# Altium footprint library PcbLib1.PcbLib: 1 footprints
Each footprint in its own frame and in the unit in brackets; x right, y up, seen from the top. Pads: shape width x height; smd on the part's side, far side on the other; paste and mask are expansions set on the pad; w line width, h text height; cw(c..) or ccw(c..) is an arc to the next point about the centre after c.
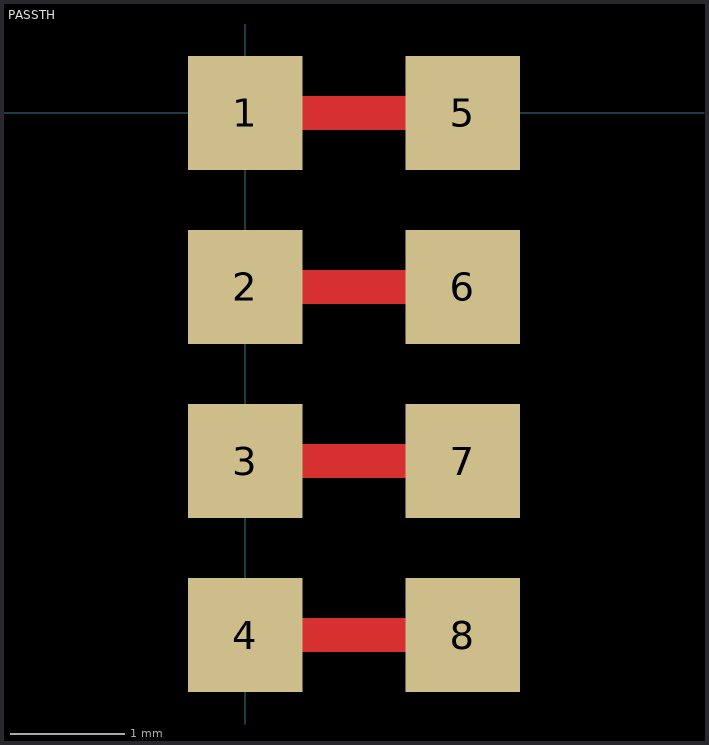
[diagram p0: the footprint, top view; thin cyan lines are the x and y axes]

## PASSTH [mm]
pads (8):
  rect 1x1 smd: 1(0,0) 2(0,-1.524) 3(0,-3.048) 4(0,-4.572) 5(1.905,0) 6(1.905,-1.524) 7(1.905,-3.048) 8(1.905,-4.572)
Top Layer:
  lines w0.3: 0,-4.572 1.905,-4.572 ; 0,-3.048 1.905,-3.048 ; 0,-1.524 1.905,-1.524 ; 0,0 1.905,0